# Altium footprint library Quoc_Bao.PcbLib: 16 footprints
Each footprint in its own frame and in the unit in brackets; x right, y up, seen from the top. Pads: shape width x height; smd on the part's side, far side on the other; paste and mask are expansions set on the pad; w line width, h text height; cw(c..) or ccw(c..) is an arc to the next point about the centre after c.
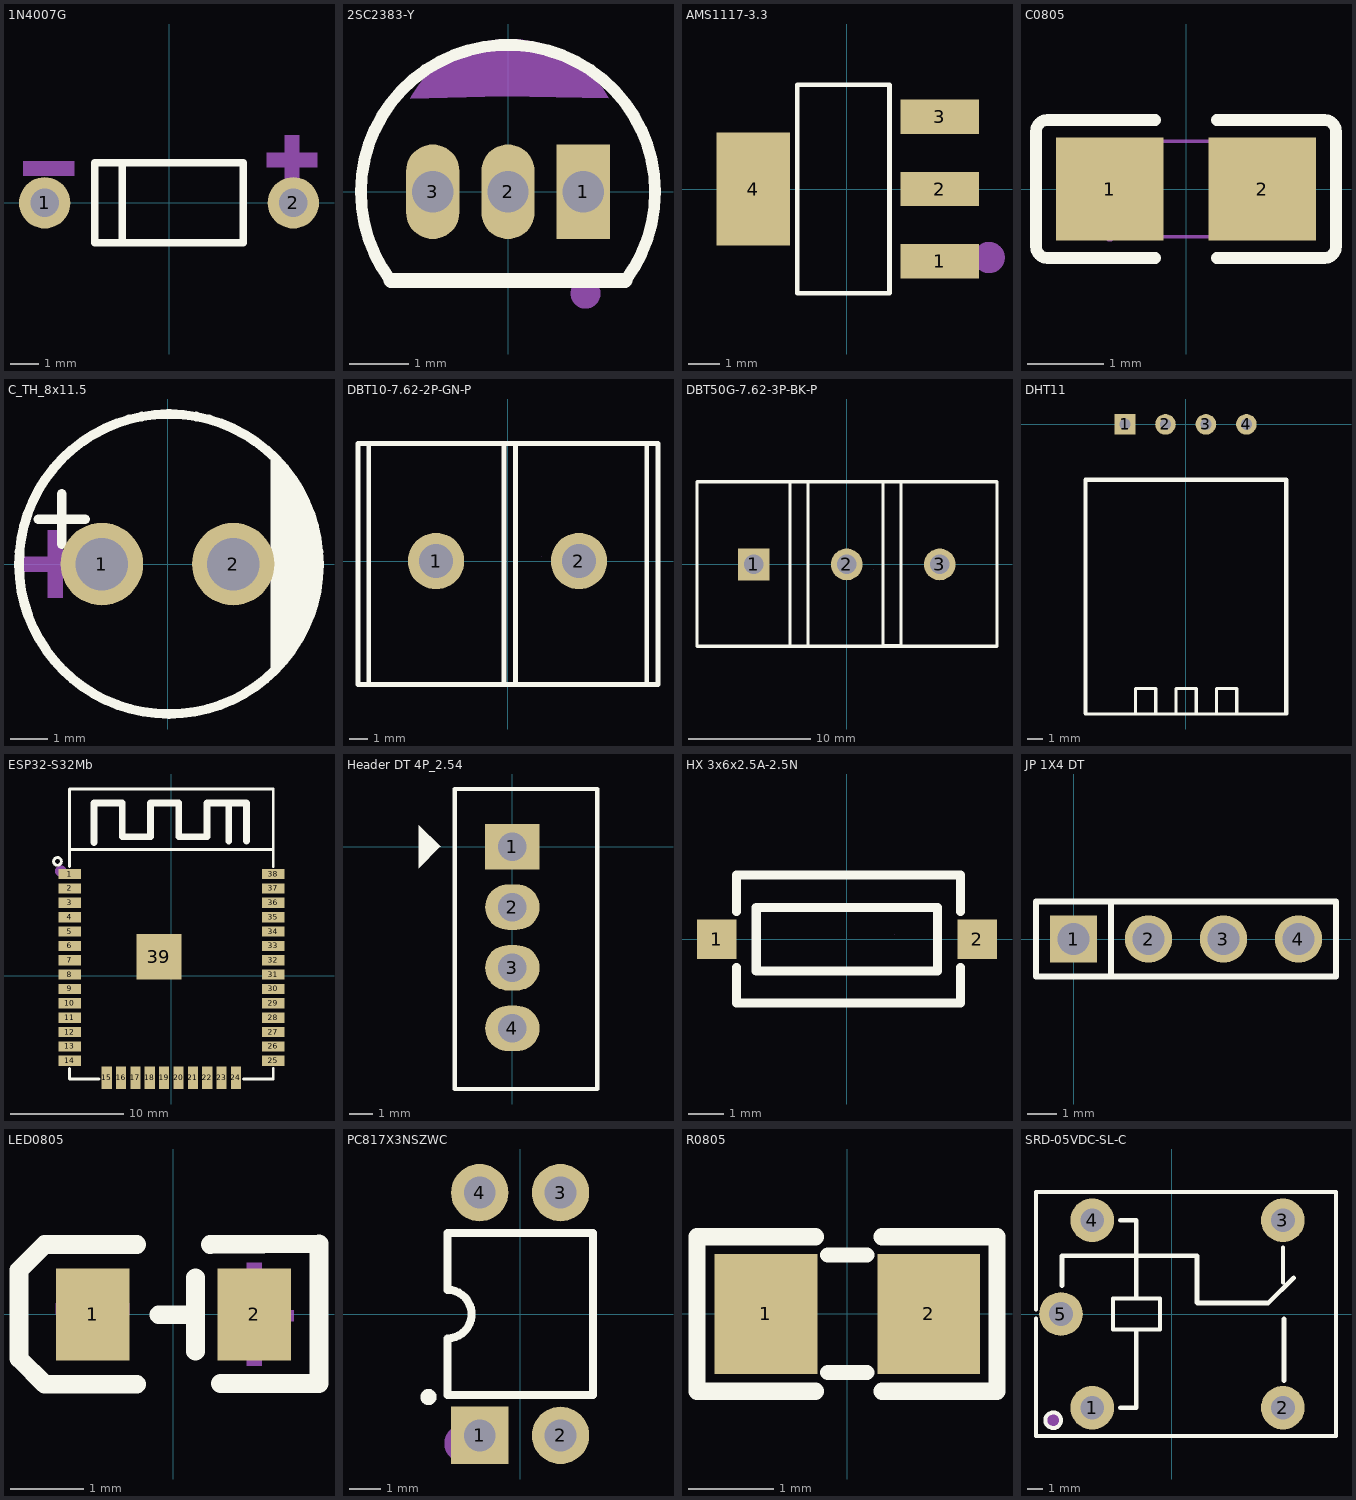
[diagram p0: the footprints below, top view; thin cyan lines are the x and y axes]

## 1N4007G [mm] "30A 1kV 930mV@1A 1A DO-41 Single Diodes RoHS"
pads (2):
  round 1.8 hole 1 paste-2539.97 mask+0.051: 1(-4.35,0) 2(4.35,0)
Top Overlay:
  lines w0.254: -1.641,-1.4 -1.641,1.4 ; -2.6,-1.4 2.6,-1.4 2.6,1.4 -2.6,1.4 -2.6,-1.4
Mechanical 15:
  region: 3.415,1.759 5.193,1.759 5.193,1.251 3.415,1.251
  region: 4.045,0.593 4.045,2.371 4.553,2.371 4.553,0.593
  region: -5.102,1.451 -3.324,1.451 -3.324,0.943 -5.102,0.943
3D body "Diode DO-41 350 mil.step": height 2.34, standoff -2, extent -4.82,-1.2 4.77,1.2

## 2SC2383-Y [mm] "900mW 160V 1A NPN TO-92LM Single Bipolar Transistors RoHS"
pads (3):
  rect 0.9x1.6 hole 0.7 paste-2539.97 mask+0.051: 1(1.27,0)
  oval 0.9x1.6 hole 0.7 paste-2539.97 mask+0.051: 2(0,0) 3(-1.27,0)
Top Overlay:
  lines w0.2: -1.981,-1.501 cw(c0,-0.003) 1.981,-1.501
  lines w0.254: -1.98,-1.5 1.98,-1.5
Mechanical 15:
  circle w0.254: c1.31,-1.72 r0.127
  region: 0,2.58 -0.062,2.578 -0.124,2.574 -0.186,2.568 -0.248,2.561 -0.309,2.551 -0.37,2.539 -0.43,2.525 -0.49,2.509 -0.55,2.491 -0.609,2.471 -0.667,2.45 -0.725,2.426 -0.781,2.401 -0.837,2.374 -0.892,2.344 -0.946,2.314 -0.999,2.281 -1.051,2.247 -1.101,2.211 -1.151,2.173 -1.199,2.134 -1.246,2.093 -1.291,2.051 -1.335,2.007 -1.378,1.962 -1.419,1.915 -1.459,1.868 -1.497,1.818 -1.533,1.768 -1.568,1.717 -1.601,1.664 -1.632,1.61 -1.654,1.57 -0.078,1.609 1.7,1.58 1.624,1.705 1.59,1.757 1.554,1.808 1.516,1.857 1.477,1.905 1.436,1.952 1.393,1.998 1.35,2.042 1.304,2.084 1.258,2.125 1.21,2.165 1.161,2.203 1.11,2.239 1.059,2.274 1.006,2.307 0.952,2.338 0.898,2.368 0.842,2.395 0.786,2.421 0.728,2.445 0.67,2.467 0.612,2.487 0.552,2.505 0.492,2.522 0.432,2.536 0.371,2.548 0.31,2.559 0.248,2.567 0.186,2.573 0.124,2.578 0.062,2.58
3D body "TO-92L.STEP": height 8, standoff -11.7, extent -2.79,-1.45 2.79,2.5

## AMS1117-3.3 [mm]
pads (4):
  rect 2.5x1.1 smd paste+0 mask+0.051: 1(2.97,-2.3) 2(2.97,0) 3(2.97,2.3)
  rect 2.34x3.6 smd paste+0 mask+0.051: 4(-2.97,0)
Top Overlay:
  lines w0.152: -1.571,-3.326 -1.571,3.326 1.371,3.326 1.371,-3.326 -1.571,-3.326
Mechanical 15:
  circle w0.5: c4.552,-2.188 r0.25
3D body "SOT-223.STEP": height 1.82, standoff -0.22, extent -3.66,-3.275 3.712,3.225

## C0805 [mm]
pads (2):
  rect 1.41x1.35 smd paste-100 mask+0.051: 1(-1,0) 2(1,0)
Top Overlay:
  lines w0.152: -0.401,-0.904 -1.811,-0.904 cw(c-1.811,-0.751) -1.964,-0.751 -1.964,0.751 cw(c-1.811,0.751) -1.811,0.904 -0.401,0.904 ; 0.401,-0.904 1.811,-0.904 ccw(c1.811,-0.751) 1.964,-0.751 1.964,0.751 ccw(c1.811,0.751) 1.811,0.904 0.401,0.904
Top Paste:
  region: 1.705,0.64 1.705,-0.64 1.655,-0.69 0.505,-0.69 0.455,-0.64 0.45,-0.23 0.9,-0.23 0.9,0.22 0.46,0.22 0.455,0.64 0.505,0.69 1.655,0.69
  region: -1.705,-0.64 -1.705,0.64 -1.655,0.69 -0.505,0.69 -0.455,0.64 -0.45,0.23 -0.9,0.23 -0.9,-0.22 -0.46,-0.22 -0.455,-0.64 -0.505,-0.69 -1.655,-0.69
Mechanical 15:
  region: 1,0.625 1,-0.625 0.5,-0.625 0.5,0.625
  region: -1,-0.625 -1,0.625 -0.5,0.625 -0.5,-0.625
  region: -0.94,-0.625 -0.94,-0.65 -0.975,-0.685 -1.025,-0.685 -1.06,-0.65 -1.06,-0.625 -1.06,-0.6 -1.025,-0.565 -0.975,-0.565 -0.94,-0.6
  lines w0.051: -1,-0.625 1,-0.625 1,0.625 -1,0.625 -1,-0.625
3D body "C0805.step": height 0.6, standoff 0, extent -1,-0.625 1,0.625

## C_TH_8x11.5 [mm]
pads (2):
  round 2.2 hole 1.4 paste-2539.97 mask+0.051: 1(-1.75,0) 2(1.75,0)
Top Overlay:
  region: 2.75,-3 2.941,-2.8 3.268,-2.355 3.536,-1.872 3.741,-1.359 3.88,-0.824 3.95,-0.276 3.95,0.276 3.88,0.824 3.741,1.359 3.536,1.872 3.268,2.355 2.941,2.8 2.75,3
  lines w0.254: -3.445,1.2 -2.2,1.2 ; -2.822,0.527 -2.822,1.873 ; 0.003,4 ccw(c0.038,0.001) 0.074,4
Mechanical 15:
  region: -3.2,0.5 -3.2,-0.9 -2.8,-0.9 -2.8,0.7 -2.8,0.9 -3.2,0.9
  region: -2.5,0.2 -3.9,0.2 -3.9,-0.2 -2.3,-0.2 -2.1,-0.2 -2.1,0.2
  region: 3.5,0.2 2.1,0.2 2.1,-0.2 3.7,-0.2 3.9,-0.2 3.9,0.2
3D body "EEU-FR1V101B.STEP": height 11.5, standoff -17, extent -4,-3.992 4,3.992

## DBT10-7.62-2P-GN-P [mm] "1x2P Side Mount 2-Side 7.62mm 1 2 24A -40℃~+105℃ Green 14~22 Straight Pin Through Hole,P=7.62mm Barrier Blocks RoHS"
pads (2):
  round 3 hole 1.8 paste-2539.97 mask+0.051: 1(-3.81,0) 2(3.81,0)
Top Overlay:
  lines w0.254: -7.403,-6.58 -7.403,6.27 ; -0.189,-6.58 -0.189,6.27 ; 0.42,-6.58 0.42,6.27 ; 7.431,-6.58 7.431,6.27 ; -7.975,-6.58 -7.975,6.27 8.025,6.27 8.025,-6.58 -7.975,-6.58
Mechanical 15:
  lines w0.003: 1.834,0.233 1.834,0.233
3D body "kf25c-2p.step": height 14.8, standoff -5, extent -8.545,-7.002 8.545,6.798

## DBT50G-7.62-3P-BK-P [mm] "1x3P Side Mount With Cover Plate 7.62mm 1 3 -40?~+105? 20A Black 12~22 Straight Pin Through Hole,P=7.62mm Barrier Blocks RoHS"
pads (3):
  rect 2.6x2.6 hole 1.6 paste-2539.97 mask+0.051: 1(-7.62,0)
  round 2.6 hole 1.6 paste-2539.97 mask+0.051: 2(0,0) 3(7.62,0)
Top Overlay:
  lines w0.254: -12.268,-6.706 -12.268,6.782 12.319,6.782 12.319,-6.706 -12.268,-6.706 ; -4.632,-6.706 -4.632,6.756 -3.182,6.756 -3.182,-6.706 -4.632,-6.706 ; 2.988,-6.629 2.988,6.782 4.438,6.782 4.438,-6.629 2.988,-6.629
Mechanical 15:
  lines w0.003: 2.166,-0.378 2.166,-0.377
3D body "kf25c-3p.step": height 14.8, standoff -5, extent -12.355,-6.9 12.355,6.9

## DHT11 [mil] "±5%RH -20℃~+60℃ 5%RH~95%RH SIP-4 Humidity, Moisture Sensors RoHS"
pads (4):
  rect 51x51 hole 28 paste-99999 mask+2: 1(-150,0)
  round 51 hole 28 paste-99999 mask+2: 2(-50,0) 3(50,0) 4(150,0)
Top Overlay:
  lines w8: -247.4,-715.8 151,-715.8 249.4,-715.8 ; -124,-715.8 -124,-653 -74,-653 -74,-715.8 ; -24,-715.8 -24,-653 26,-653 26,-715.8 ; 76,-715.8 76,-653 126,-653 126,-715.8
  lines w10: -248.03,-714 -248.03,-137 248.4,-137 248.4,-713
3D body "DHT11_H_PCB.STEP": height 218.5, standoff -46.06, extent -235.44,-719.24 237,8.72

## ESP32-S32Mb [mm] "2.4GHz ESP32 Chip On-board PCB Antenna -90dBm RF Transceiver Modules and Modems RoHS"
pads (39):
  rect 2x0.9 smd paste+0 mask+0.05: 1(-9,9.005) 2(-9,7.735) 3(-9,6.465) 4(-9,5.195) 5(-9,3.925) 6(-9,2.655) 7(-9,1.385) 8(-9,0.115) 9(-9,-1.155) 10(-9,-2.425) 11(-9,-3.695) 12(-9,-4.965) 13(-9,-6.235) 14(-9,-7.505) 25(9,-7.505) 26(9,-6.235) 27(9,-4.965) 28(9,-3.695) 29(9,-2.425) 30(9,-1.155) 31(9,0.115) 32(9,1.385) 33(9,2.655) 34(9,3.925) 35(9,5.195) 36(9,6.465) 37(9,7.735) 38(9,9.005)
  rect 0.9x2 smd paste+0 mask+0.05: 15(-5.715,-9.005) 16(-4.445,-9.005) 17(-3.175,-9.005) 18(-1.905,-9.005) 19(-0.635,-9.005) 20(0.635,-9.005) 21(1.905,-9.005) 22(3.175,-9.005) 23(4.445,-9.005) 24(5.715,-9.005)
  rect 4x4 smd paste+0 mask+0.05: 39(-1.1,1.689)
Top Overlay:
  circle w0.254: c-10.07,10.127 r0.342
  lines w0.254: -9.017,-8.186 -9.017,-9.131 -6.396,-9.131 ; -9.017,9.686 -9.017,16.069 -9.017,16.535 9.02,16.535 9.02,16.069 ; -9.017,11.169 9.017,11.169 ; 6.396,-9.131 9.017,-9.131 9.017,-8.186 ; 9.017,9.686 9.017,16.069
  lines w0.6: -6.85,11.805 -6.85,15.305 -4.35,15.305 ; -4.351,15.304 -4.351,12.304 -1.849,12.304 -1.849,15.304 0.65,15.304 0.65,12.304 3.149,12.304 3.149,15.304 6.65,15.304 6.65,11.937 ; 5.08,11.937 5.08,15.304
Mechanical 15:
  circle w0.5: c-9.78,9.277 r0.25
3D body "ESP32-S.step": height 3.2, standoff -0.11, extent -9.003,-9.068 9.003,16.532

## Header DT 4P_2.54 [mm]
pads (4):
  rect 2.286x1.905 hole 1.2: 1(0,0)
  oval 2.286x1.905 hole 1.2: 2(0,-2.54) 3(0,-5.08) 4(0,-7.62)
Top Overlay:
  region: -3.924,0.902 -3.924,-0.902 -3.035,-0.013 -3.01,-0.013
  lines w0.178: -2.413,-10.16 0,-10.16 3.556,-10.16 3.556,2.413 -2.413,2.413 -2.413,-10.16
3D body "User Library-HEADER,JST,BxB-XH-A.STEP": height 7, standoff -3.4, extent -2.286,-10.114 3.464,2.286

## HX 3x6x2.5A-2.5N [mm] "Without Bracket 6mm 12V 3.6mm Square Button No SPST 50mA SMD,6x3mm Tactile Switches RoHS"
pads (2):
  rect 1.1x1.1 smd paste+0 mask+0.051: 1(-3.65,0) 2(3.65,0)
Top Overlay:
  lines w0.254: -3.1,-0.781 -3.1,-1.778 3.175,-1.778 3.175,-0.781 ; -3.1,0.781 -3.1,1.8 3.175,1.8 3.175,0.781 ; -2.54,-0.889 -2.54,0.889 2.54,0.889 2.54,-0.889 -2.54,-0.889
Mechanical 15:
  lines w0.003: 1.333,0.138 1.334,0.138
3D body "Tactile_SMD_3x6x2.5mm.STEP": height 2.51, standoff 0, extent -4.026,-1.829 4.026,1.829

## JP 1X4 DT [mm] "4 pins, 1 row, straight, gold plating"
height 8.54
pads (4):
  rect 1.6x1.6 hole 1.1: 1(0,0)
  round 1.6 hole 1.1: 2(2.54,0) 3(5.08,0) 4(7.62,0)
Top Overlay:
  lines w0.2: 1.27,-1.27 1.27,1.27 ; -1.27,-1.27 -1.27,1.27 8.89,1.27 8.89,-1.27 -1.27,-1.27
3D body "61300411121.stp": height 8.54, standoff -3, extent -1.27,-1.27 8.89,1.27

## LED0805 [mm]
pads (2):
  rect 1x1.25 smd paste+0 mask+0.051: 1(-1.1,0) 2(1.1,0)
Top Overlay:
  lines w0.254: -0.5,-0.95 -1.75,-0.95 ; -0.5,0.95 -1.75,0.95 ; -0.2,-0.005 0.3,-0.005 ; 0.3,-0.5 0.3,0.5 ; 0.5,0.95 1.98,0.96 1.98,-0.94 0.64,-0.94 ; -1.75,-0.95 -2.1,-0.6 -2.1,0.6 -1.75,0.95 ; -1.75,-0.95 -1.75,-0.95 ; -1.75,0.95 -1.75,0.95
Mechanical 15:
  region: -1.6,0 -0.6,0 -0.6,0.15 -1.6,0.15
  region: 0.635,-0.094 1.635,-0.094 1.635,0.056 0.635,0.056
  region: 1,0.7 1.2,0.7 1.2,-0.7 1,-0.7
3D body "LED0805.STEP": height 0.7, standoff 0, extent -1,-0.625 1,0.625

## PC817X3NSZWC [mm] "50mA 100mV@20mA,1mA 80V 6V DC DIP-4 Transistor, Photovoltaic Output Optoisolators RoHS"
pads (4):
  rect 1.8x1.8 hole 1 paste-2539.97 mask+0.051: 1(-1.27,-3.81)
  round 1.8 hole 1 paste-2539.97 mask+0.051: 2(1.27,-3.81) 3(1.27,3.81) 4(-1.27,3.81)
Top Overlay:
  circle w0.254: c-2.877,-2.608 r0.127
  lines w0.254: -2.286,-2.537 2.286,-2.537 2.286,2.537 -2.286,2.537 -2.286,0.759 cw(c-2.286,-0.003) -2.286,-0.765 -2.286,-2.537
Mechanical 15:
  circle w0.6: c-1.778,-4.064 r0.3
3D body "step_temp.STEP": height 4.55, standoff -3.6, extent -2.3,-3.935 2.3,3.935

## R0805 [mm]
pads (2):
  rect 1.2x1.4 smd: 1(-0.95,0) 2(0.95,0)
Top Overlay:
  lines w0.178: -0.229,-0.686 0.228,-0.686 ; -0.229,0.686 0.228,0.686
  lines w0.2: -0.371,-0.904 -1.754,-0.904 -1.754,0.899 -0.371,0.899 ; 0.404,-0.904 1.746,-0.904 1.746,0.899 0.404,0.899
3D body "R0805.step": height 0.4, standoff 0, extent -1,-0.6 1,0.6

## SRD-05VDC-SL-C [mil] "250V@AC 5V 15A Through Hole,19.2x15.6mm Power Relays RoHS"
pads (5):
  round 110 hole 60 paste-99999 mask+2: 1(-200.79,-236.22) 2(279.52,-236.2) 3(279.53,236.2) 4(-200.79,236.22) 5(-279.53,0)
Top Overlay:
  circle w10: c-299.21,-267.72 r19.69
  lines w10: -342.49,-11.6 -342.49,-307.09 413.43,-307.09 ; -342.49,11.6 -342.49,307.09 413.42,307.09 413.43,-307.09 ; 279.5,79.5 279.5,167.2 ; -148.62,-39.37 -148.62,39.37 -30.51,39.37 -30.51,-39.37 -148.62,-39.37
  lines w11.81: -276.84,70.87 -276.84,146.74 63.16,146.74 63.16,28.63 64.11,27.68 222.22,27.68 242.22,27.68 ; -130.31,-236.22 -90.24,-236.22 -90.24,-41.39 ; -130.31,236.22 -90.24,236.22 -90.24,41.37 ; 242.13,27.6 307.11,90.9 ; 282.22,-167.6 282.22,-12.3
Mechanical 15:
  circle w19.68: c-299.21,-267.72 r9.84
3D body "Relay_250VDC-relay1.step": height 592.91, standoff -114.17, extent -325.14,-298.24 407.14,296.24